# EAGLE library part MSP430F1611 (library BQ25504)
IC MCU 16BIT 48KB FLASH
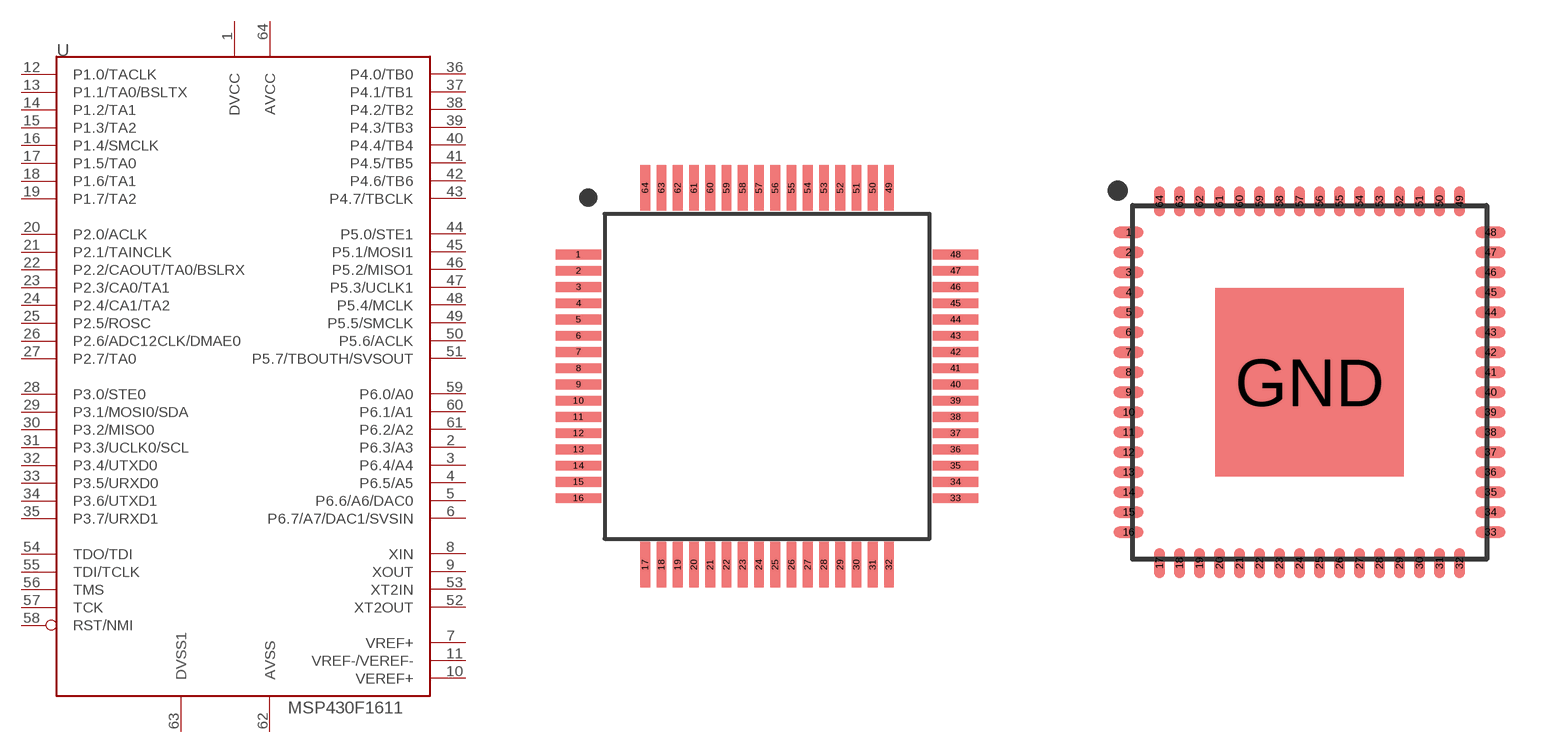
[diagram p6: symbol with the pads of S-PQFP-G64; footprints S-PQFP-G64, S-PVQFN-N64]

Designator prefix U

## MSP430F1611IPM (DIGIKEY: 296-26188-1-ND)  [S-PQFP-G64]
1  DVCC  pwr
2  P6.3/A3
3  P6.4/A4
4  P6.5/A5
5  P6.6/A6/DAC0
6  P6.7/A7/DAC1/SVSIN
7  VREF+
8  XIN
9  XOUT
10  VEREF+
11  VREF-/VEREF-
12  P1.0/TACLK
13  P1.1/TA0/BSLTX
14  P1.2/TA1
15  P1.3/TA2
16  P1.4/SMCLK
17  P1.5/TA0
18  P1.6/TA1
19  P1.7/TA2
20  P2.0/ACLK
21  P2.1/TAINCLK
22  P2.2/CAOUT/TA0/BSLRX
23  P2.3/CA0/TA1
24  P2.4/CA1/TA2
25  P2.5/ROSC
26  P2.6/ADC12CLK/DMAE0
27  P2.7/TA0
28  P3.0/STE0
29  P3.1/MOSI0/SDA
30  P3.2/MISO0
31  P3.3/UCLK0/SCL
32  P3.4/UTXD0
33  P3.5/URXD0
34  P3.6/UTXD1
35  P3.7/URXD1
36  P4.0/TB0
37  P4.1/TB1
38  P4.2/TB2
39  P4.3/TB3
40  P4.4/TB4
41  P4.5/TB5
42  P4.6/TB6
43  P4.7/TBCLK
44  P5.0/STE1
45  P5.1/MOSI1
46  P5.2/MISO1
47  P5.3/UCLK1
48  P5.4/MCLK
49  P5.5/SMCLK
50  P5.6/ACLK
51  P5.7/TBOUTH/SVSOUT
52  XT2OUT
53  XT2IN
54  TDO/TDI
55  TDI/TCLK
56  TMS
57  TCK
58  RST/NMI
59  P6.0/A0
60  P6.1/A1
61  P6.2/A2
62  AVSS  pwr
63  DVSS1  pwr
64  AVCC  pwr

## MSP430F1611IRTD (DIGIKEY: 296-18102-1-ND)  [S-PVQFN-N64]
1  DVCC  pwr
2  P6.3/A3
3  P6.4/A4
4  P6.5/A5
5  P6.6/A6/DAC0
6  P6.7/A7/DAC1/SVSIN
7  VREF+
8  XIN
9  XOUT
10  VEREF+
11  VREF-/VEREF-
12  P1.0/TACLK
13  P1.1/TA0/BSLTX
14  P1.2/TA1
15  P1.3/TA2
16  P1.4/SMCLK
17  P1.5/TA0
18  P1.6/TA1
19  P1.7/TA2
20  P2.0/ACLK
21  P2.1/TAINCLK
22  P2.2/CAOUT/TA0/BSLRX
23  P2.3/CA0/TA1
24  P2.4/CA1/TA2
25  P2.5/ROSC
26  P2.6/ADC12CLK/DMAE0
27  P2.7/TA0
28  P3.0/STE0
29  P3.1/MOSI0/SDA
30  P3.2/MISO0
31  P3.3/UCLK0/SCL
32  P3.4/UTXD0
33  P3.5/URXD0
34  P3.6/UTXD1
35  P3.7/URXD1
36  P4.0/TB0
37  P4.1/TB1
38  P4.2/TB2
39  P4.3/TB3
40  P4.4/TB4
41  P4.5/TB5
42  P4.6/TB6
43  P4.7/TBCLK
44  P5.0/STE1
45  P5.1/MOSI1
46  P5.2/MISO1
47  P5.3/UCLK1
48  P5.4/MCLK
49  P5.5/SMCLK
50  P5.6/ACLK
51  P5.7/TBOUTH/SVSOUT
52  XT2OUT
53  XT2IN
54  TDO/TDI
55  TDI/TCLK
56  TMS
57  TCK
58  RST/NMI
59  P6.0/A0
60  P6.1/A1
61  P6.2/A2
62  AVSS  pwr
63  DVSS1  pwr
64  AVCC  pwr
GND  DVSS1  pwr

## Footprint S-PQFP-G64 (pad centres in mm)
smd 1.4 x 0.3: 1 -5.8,3.75; 2 -5.8,3.25; 3 -5.8,2.75; 4 -5.8,2.25; 5 -5.8,1.75; 6 -5.8,1.25; 7 -5.8,0.75; 8 -5.8,0.25; 9 -5.8,-0.25; 10 -5.8,-0.75; 11 -5.8,-1.25; 12 -5.8,-1.75; 13 -5.8,-2.25; 14 -5.8,-2.75; 15 -5.8,-3.25; 16 -5.8,-3.75; 33 5.8,-3.75; 34 5.8,-3.25; 35 5.8,-2.75; 36 5.8,-2.25; 37 5.8,-1.75; 38 5.8,-1.25; 39 5.8,-0.75; 40 5.8,-0.25; 41 5.8,0.25; 42 5.8,0.75; 43 5.8,1.25; 44 5.8,1.75; 45 5.8,2.25; 46 5.8,2.75; 47 5.8,3.25; 48 5.8,3.75
smd 0.3 x 1.4: 17 -3.75,-5.8; 18 -3.25,-5.8; 19 -2.75,-5.8; 20 -2.25,-5.8; 21 -1.75,-5.8; 22 -1.25,-5.8; 23 -0.75,-5.8; 24 -0.25,-5.8; 25 0.25,-5.8; 26 0.75,-5.8; 27 1.25,-5.8; 28 1.75,-5.8; 29 2.25,-5.8; 30 2.75,-5.8; 31 3.25,-5.8; 32 3.75,-5.8; 49 3.75,5.8; 50 3.25,5.8; 51 2.75,5.8; 52 2.25,5.8; 53 1.75,5.8; 54 1.25,5.8; 55 0.75,5.8; 56 0.25,5.8; 57 -0.25,5.8; 58 -0.75,5.8; 59 -1.25,5.8; 60 -1.75,5.8; 61 -2.25,5.8; 62 -2.75,5.8; 63 -3.25,5.8; 64 -3.75,5.8

## Footprint S-PVQFN-N64 (pad centres in mm)
smd 0.75 x 0.28: 1 -4.525,3.75; 2 -4.525,3.25; 3 -4.525,2.75; 4 -4.525,2.25; 5 -4.525,1.75; 6 -4.525,1.25; 7 -4.525,0.75; 8 -4.525,0.25; 9 -4.525,-0.25; 10 -4.525,-0.75; 11 -4.525,-1.25; 12 -4.525,-1.75; 13 -4.525,-2.25; 14 -4.525,-2.75; 15 -4.525,-3.25; 16 -4.525,-3.75; 33 4.525,-3.75; 34 4.525,-3.25; 35 4.525,-2.75; 36 4.525,-2.25; 37 4.525,-1.75; 38 4.525,-1.25; 39 4.525,-0.75; 40 4.525,-0.25; 41 4.525,0.25; 42 4.525,0.75; 43 4.525,1.25; 44 4.525,1.75; 45 4.525,2.25; 46 4.525,2.75; 47 4.525,3.25; 48 4.525,3.75
smd 0.28 x 0.75: 17 -3.75,-4.525; 18 -3.25,-4.525; 19 -2.75,-4.525; 20 -2.25,-4.525; 21 -1.75,-4.525; 22 -1.25,-4.525; 23 -0.75,-4.525; 24 -0.25,-4.525; 25 0.25,-4.525; 26 0.75,-4.525; 27 1.25,-4.525; 28 1.75,-4.525; 29 2.25,-4.525; 30 2.75,-4.525; 31 3.25,-4.525; 32 3.75,-4.525; 49 3.75,4.525; 50 3.25,4.525; 51 2.75,4.525; 52 2.25,4.525; 53 1.75,4.525; 54 1.25,4.525; 55 0.75,4.525; 56 0.25,4.525; 57 -0.25,4.525; 58 -0.75,4.525; 59 -1.25,4.525; 60 -1.75,4.525; 61 -2.25,4.525; 62 -2.75,4.525; 63 -3.25,4.525; 64 -3.75,4.525
smd 4.7 x 4.7: GND 0,0